# Altium schematic symbol library CircuitProtection.SchLib: 3 symbols
Pins are listed as number, name and electrical type; pins without a type are passive.

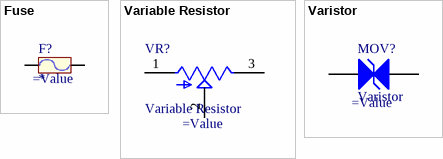
[diagram p0: symbols Fuse to Varistor]

## Fuse
designator F?
Value: =Value
pins: 1, 2

## Variable Resistor
designator VR?
20 kOhms 0.5W, 1/2W PC Pins Through Hole Trimmer Potentiometer Cermet 1 Turn Top Adjustment; Value: =Value
pins: 1 CCW, 2 WIPER, 3 CW

## Varistor
designator MOV?
Value: =Value
pins: 1, 2